# Altium footprint library 101-SOT.PcbLib: 5 footprints
Each footprint in its own frame and in the unit in brackets; x right, y up, seen from the top. Pads: shape width x height; smd on the part's side, far side on the other; paste and mask are expansions set on the pad; w line width, h text height; cw(c..) or ccw(c..) is an arc to the next point about the centre after c.
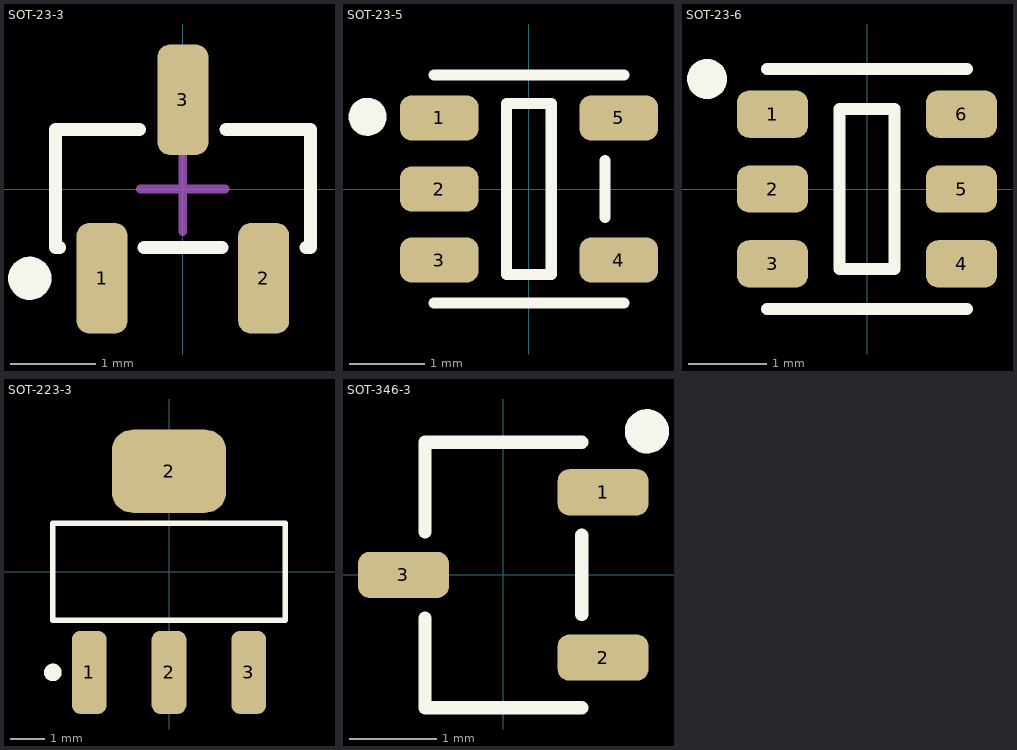
[diagram p0: the footprints below, top view; thin cyan lines are the x and y axes]

## SOT-23-3 [mm] "SOT-23-3/3mmx2.5mmx1.1mm"
height 1.1
pads (3):
  rrect50% 0.6x1.3 smd: 1(-0.95,-1.05) 2(0.95,-1.05) 3(0,1.05)
Top Overlay:
  circle w0.254: c-1.8,-1.05 r0.127
  lines w0.152: -1.448,-0.686 -1.5,-0.686 -1.5,0.7 -0.508,0.7 ; -0.457,-0.686 0.457,-0.686 ; 0.508,0.7 1.5,0.7 1.5,-0.686 1.448,-0.686
Mechanical 15:
  lines w0.1: -0.5,0 0.5,0 ; 0,-0.5 0,0.5
3D body "SOT-23-3.step": height 1.4, standoff 0, extent -1.45,-1.4 1.45,1.4

## SOT-23-5 [mm] "SOT-23-5/3.02mmx2.95mmx1.25mm"
height 1.25
pads (5):
  rrect50% 1.05x0.6 smd: 1(-1.2,0.95) 2(-1.2,0) 3(-1.2,-0.95) 4(1.2,-0.95) 5(1.2,0.95)
Top Overlay:
  circle w0.254: c-2.159,0.965 r0.127
  lines w0.152: -1.27,-1.524 1.27,-1.524 ; -1.27,1.524 1.27,1.524 ; 1.016,-0.381 1.016,0.381 ; -0.3,-1.143 0.3,-1.143 0.3,1.143 -0.3,1.143 -0.3,-1.143
3D body "SOT-23-5.step": height 1.2, standoff 0, extent -1.4,-1.45 1.4,1.45

## SOT-23-6 [mm] "SOT-23-5/3.05mmx3.00mmx1.45mm"
height 1.45
pads (6):
  rrect50% 0.9x0.6 smd: 1(-1.2,0.95) 2(-1.2,0) 3(-1.2,-0.95) 4(1.2,-0.95) 5(1.2,0) 6(1.2,0.95)
Top Overlay:
  circle w0.254: c-2.032,1.397 r0.127
  lines w0.152: -1.27,-1.524 1.27,-1.524 ; -1.27,1.524 1.27,1.524 ; -0.35,-1.016 -0.35,1.016 0.35,1.016 0.35,-1.016 -0.35,-1.016
3D body "SOT-23-6.step": height 1.65, standoff 0, extent -1.406,-1.45 1.406,1.45

## SOT-223-3 [mm] "SOT-223-3/7mmx6.5mmx1.6mm"
height 1.6
pads (4):
  rrect50% 1x2.4 smd: 1(-2.3,-2.9) 2(0,-2.9) 3(2.3,-2.9)
  rrect50% 3.3x2.4 smd: 2(0,2.9)
Top Overlay:
  circle w0.254: c-3.35,-2.9 r0.127
  lines w0.152: -3.35,-1.4 -3.35,1.4 3.35,1.4 3.35,-1.4 -3.35,-1.4
3D body "SOT-223-3.step": height 1.75, standoff 0, extent -3.25,-3.455 3.25,3.655

## SOT-346-3 [mm] "SOT-346-3/3mmx3mmx1.3mm"
height 1.3
pads (3):
  rrect50% 1.045x0.532 smd: 1(1.148,0.95) 2(1.148,-0.95) 3(-1.148,0)
Top Overlay:
  circle w0.254: c1.651,1.651 r0.127
  lines w0.152: -0.901,-0.495 -0.901,-1.526 0.901,-1.526 ; -0.901,0.495 -0.901,1.526 0.901,1.526 ; 0.901,-0.455 0.901,0.455
Mechanical 15:
  region: 0.95,-1.163 0.95,-0.737 1.4,-0.737 1.4,-1.163
  region: 0.815,-1.163 0.815,-0.737 0.96,-0.737 0.96,-1.163
  region: 0.95,0.737 0.95,1.163 1.4,1.163 1.4,0.737
  region: 0.815,0.737 0.815,1.163 0.96,1.163 0.96,0.737
  region: -0.95,-0.212 -0.95,0.212 -1.4,0.212 -1.4,-0.212
  region: -0.96,-0.212 -0.96,0.212 -0.815,0.212 -0.815,-0.212
3D body "SOT-346-3.step": height 1.15, standoff 0, extent -1.4,-1.45 1.4,1.45